# EAGLE library part DIL32 (library R8C)
Dual In Line
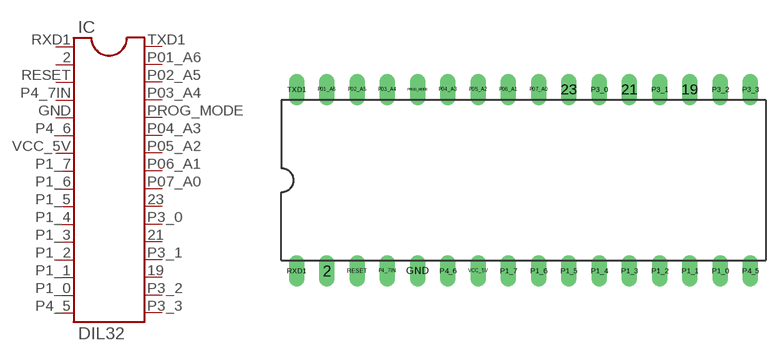
[diagram p10: symbol with the pads of DIL32; footprint DIL32]

Designator prefix IC

## DIL32R8C/13TINY  [DIL32]
2  2  pas
19  19  pas
21  21  pas
23  23  pas
GND  GND  pas
P1_0  P1_0  pas
P1_1  P1_1  pas
P1_2  P1_2  pas
P1_3  P1_3  pas
P1_4  P1_4  pas
P1_5  P1_5  pas
P1_6  P1_6  pas
P1_7  P1_7  pas
P01_A6  P01-A6  pas
P02_A5  P02-A5  pas
P3_0  P3_0  pas
P3_1  P3_1  pas
P3_2  P3_2  pas
P3_3  P3_3  pas
P03_A4  P03-A4  pas
P4_5  P4_5  pas
P4_6  P4_6  pas
P4_7IN  P4_7IN  pas
P04_A3  P04-A3  pas
P05_A2  P05-A2  pas
P06_A1  P06-A1  pas
P07_A0  P07-A0  pas
PROG_MODE  PROG_MODE  pas
RESET  RESET  pas
RXD1  RXD1  pas
TXD1  TXD1  pas
VCC_5V  VCC_5V  pas

## Footprint DIL32 (pad centres in mm)
Dual In Line Package
drill 0.813 long: 2 -16.51,-7.62; 19 13.97,7.62; 21 8.89,7.62; 23 3.81,7.62; GND -8.89,-7.62; P1_0 16.51,-7.62; P1_1 13.97,-7.62; P1_2 11.43,-7.62; P1_3 8.89,-7.62; P1_4 6.35,-7.62; P1_5 3.81,-7.62; P1_6 1.27,-7.62; P1_7 -1.27,-7.62; P01_A6 -16.51,7.62; P02_A5 -13.97,7.62; P3_0 6.35,7.62; P3_1 11.43,7.62; P3_2 16.51,7.62; P3_3 19.05,7.62; P03_A4 -11.43,7.62; P4_5 19.05,-7.62; P4_6 -6.35,-7.62; P4_7IN -11.43,-7.62; P04_A3 -6.35,7.62; P05_A2 -3.81,7.62; P06_A1 -1.27,7.62; P07_A0 1.27,7.62; PROG_MODE -8.89,7.62; RESET -13.97,-7.62; RXD1 -19.05,-7.62; TXD1 -19.05,7.62; VCC_5V -3.81,-7.62